# EAGLE library part 3X8PINHEAD (library 3X8PINHEAD)
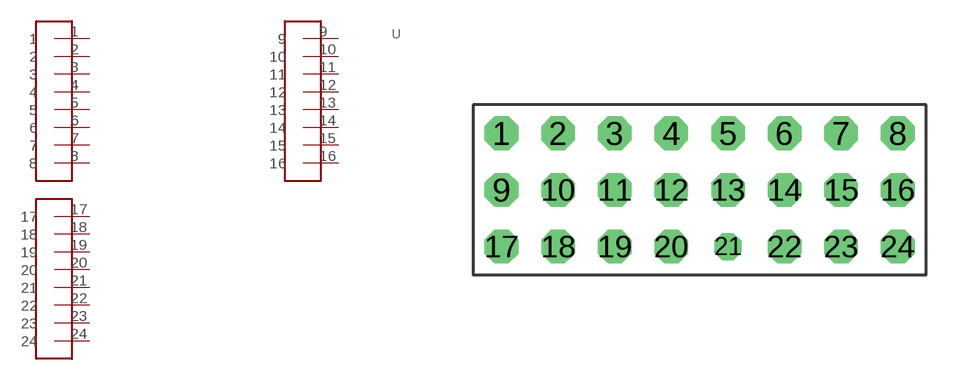
[diagram p0: symbol with the pads of 3X8PINHEAD; footprint 3X8PINHEAD]

Designator prefix -

## 3X8PINHEAD  [3X8PINHEAD]
1  1
2  2
3  3
4  4
5  5
6  6
7  7
8  8
9  9
10  10
11  11
12  12
13  13
14  14
15  15
16  16
17  17
18  18
19  19
20  20
21  21
22  22
23  23
24  24

## Footprint 3X8PINHEAD (pad centres in mm)
drill 1 octagon: 1 0,0; 2 2.54,0; 3 5.08,0; 4 7.62,0; 5 10.16,0; 6 12.7,0; 7 15.24,0; 8 17.78,0; 9 0,-2.54; 10 2.54,-2.54; 11 5.08,-2.54; 12 7.62,-2.54; 13 10.16,-2.54; 14 12.7,-2.54; 15 15.24,-2.54; 16 17.78,-2.54; 17 0,-5.08; 18 2.54,-5.08; 19 5.08,-5.08; 20 7.62,-5.08; 22 12.7,-5.08; 23 15.24,-5.08; 24 17.78,-5.08
drill 0.7 octagon: 21 10.16,-5.08